# Altium footprint library 5W_Axial Resistor.PcbLib: 1 footprints
Each footprint in its own frame and in the unit in brackets; x right, y up, seen from the top. Pads: shape width x height; smd on the part's side, far side on the other; paste and mask are expansions set on the pad; w line width, h text height; cw(c..) or ccw(c..) is an arc to the next point about the centre after c.
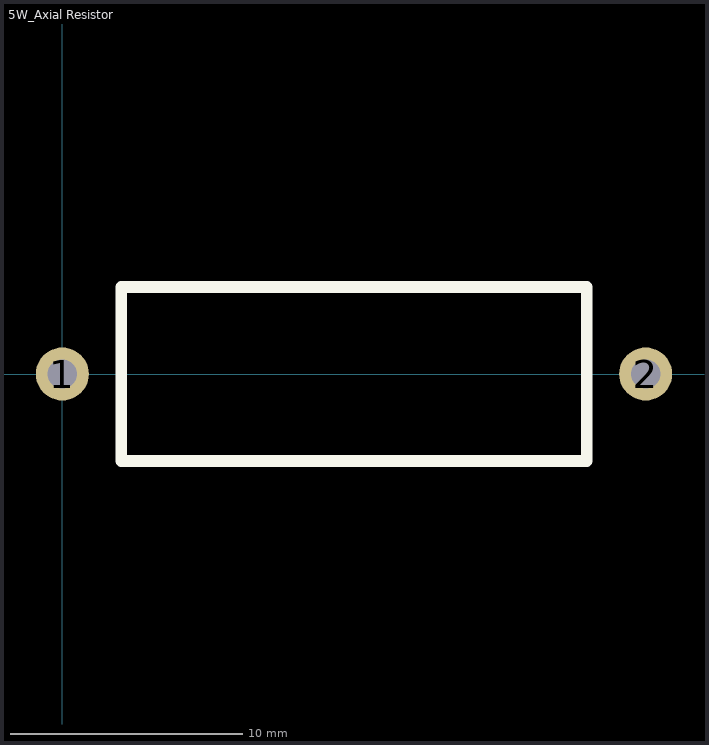
[diagram p0: the footprint, top view; thin cyan lines are the x and y axes]

## 5W_Axial Resistor [mil]
pads (2):
  round 90 hole 50: 1(0,0) 2(990,0)
Top Overlay:
  lines w20: 100,-147.5 890,-147.5 890,147.5 100,147.5 100,-147.5